# Altium schematic symbol library WE-SPE.SchLib: 2 symbols
Pins are listed as number, name and electrical type; pins without a type are passive.

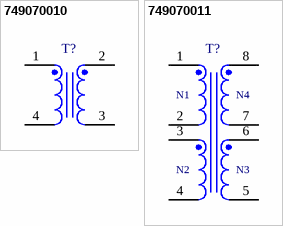
[diagram p0: symbols 749070010 to 749070011]

## 749070010
designator T?  (value not drawn)
WE-SPE Single Pair Ethernet, SMT, 4 pins, 2.2mH, 18pF; Manufacturer: Wurth Elektronik; Insulation Test Voltage: 2250V (DC); Manufacturer Part Number: 749070010; Category: Signal Transformers; Match Code: WE-SPE; ComponentLink1Description: Website Link; ComponentLink1URL: https://www.we-online.com/redexpert/article/749070010?ad; ComponentLink2Description: Datasheet Link; ComponentLink2URL: https://www.we-online.com/redexpert/spec/749070010?ad; Mount: Surface Mount; Min Operating Temperature: -40°C; Max Operating Temperature: 125°C; Packaging: Tape and Reel; Inductance: 2.2mH; Interwinding Capacitance: 18pF; Number of Pins: 4
footprint 749070010
pins: 1, 2, 3, 4

## 749070011
designator T?  (value not drawn)
WE-SPE Single Pair Ethernet, SMT, 8 pins, 2.2mH, 18pF; Manufacturer: Wurth Elektronik; Insulation Test Voltage: 2250V (DC); Manufacturer Part Number: 749070011; Category: Signal Transformers; Match Code: WE-SPE; ComponentLink1Description: Website Link; ComponentLink1URL: https://www.we-online.com/redexpert/article/749070011?ad; ComponentLink2Description: Datasheet Link; ComponentLink2URL: https://www.we-online.com/redexpert/spec/749070011?ad; Mount: Surface Mount; Min Operating Temperature: -40°C; Max Operating Temperature: 125°C; Packaging: Tape and Reel; Inductance: 2.2mH; Interwinding Capacitance: 18pF; Number of Pins: 8
footprint 749070011
pins: 1, 2, 3, 4, 5, 6, 7, 8
text: N1; N4; N2; N3